# Altium footprint library DIP-Q  0607.PCBlib: 66 footprints (part 3 of 5)
Each footprint in its own frame and in the unit in brackets; x right, y up, seen from the top. Pads: shape width x height; smd on the part's side, far side on the other; paste and mask are expansions set on the pad; w line width, h text height; cw(c..) or ccw(c..) is an arc to the next point about the centre after c.
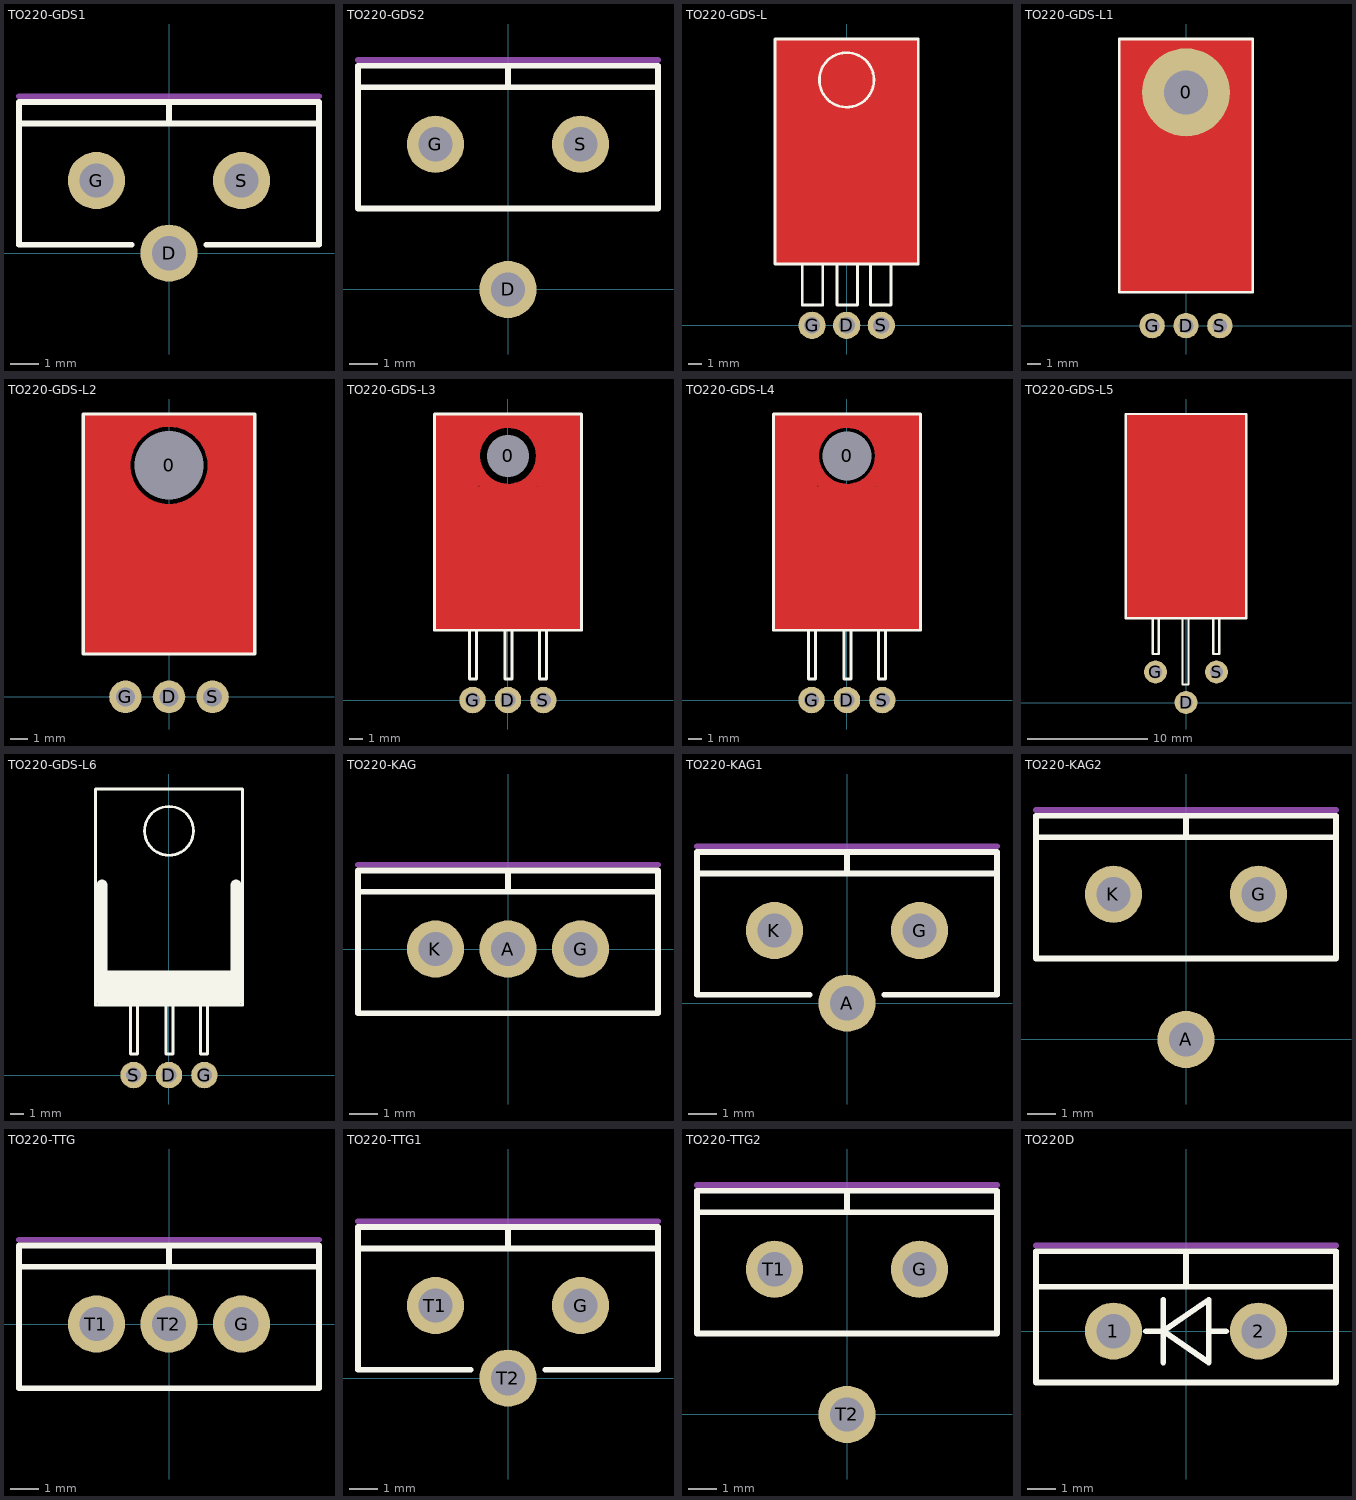
[diagram p2: the footprints below, top view; thin cyan lines are the x and y axes]

## TO220-GDS1 [mm]
height 19.7
pads (3):
  round 2 hole 1.2: D(0,0) G(-2.54,2.54) S(2.54,2.54)
Top Overlay:
  lines w0.2: -5.25,4.54 5.25,4.54 ; -1.3,0.29 -5.25,0.29 -5.25,5.29 5.25,5.29 5.25,0.29 1.3,0.29 ; 0,4.54 0,5.29
Mechanical 7:
  lines w0.2: -5.25,5.49 5.25,5.49

## TO220-GDS2 [mm]
height 19.7
pads (3):
  round 2 hole 1.2: D(0,0) G(-2.54,5.08) S(2.54,5.08)
Top Overlay:
  lines w0.2: -5.25,7.08 5.25,7.08 ; 0,7.08 0,7.83 ; -5.25,2.83 -5.25,7.83 5.25,7.83 5.25,2.83 -5.25,2.83
Mechanical 7:
  lines w0.2: -5.25,8.03 5.25,8.03

## TO220-GDS-L [mm]
height 4.6
pads (3):
  round 2 hole 1.2: D(0,0) G(-2.54,0) S(2.54,0)
Top Layer:
  rectangle: -5.2,4.5 5.3,21
Top Overlay:
  circle w0.2: c0,18 r2
  lines w0.2: -3.25,4.5 -3.25,1.5 -1.75,1.5 -1.75,4.5 ; -0.71,4.5 -0.71,1.5 0.79,1.5 0.79,4.5 ; 1.75,4.5 1.75,1.5 3.25,1.5 3.25,4.5 ; -5.25,4.5 -5.25,21 5.25,21 5.25,4.5 -5.25,4.5
Bottom Overlay:
  lines w0.3: -1.25,-1 -1.25,1 ; 1.25,-1 1.25,1

## TO220-GDS-L1 [mm]
height 4.6
pads (4):
  round 6.6 hole 3.3: 0(0,17.5)
  round 1.9 hole 1.1: D(0,0) G(-2.54,0) S(2.54,0)
Top Layer:
  rectangle: -5,2.5 5,21.5
Top Overlay:
  lines w0.2: -5,2.5 -5,21.5 5,21.5 5,2.5 -5,2.5
Bottom Overlay:
  lines w0.3: -1.27,-1 -1.27,1 ; 1.27,-1 1.27,1

## TO220-GDS-L2 [mm]
height 4.6
pads (4):
  round 2 hole 4 unplated: 0(0,13.5)
  round 1.9 hole 1.1: D(0,0) G(-2.54,0) S(2.54,0)
Top Layer:
  circle w0.5: c0,13.5 r2.5
  rectangle: 2.5,10.5 5,16.5
  region: -2.5,16.5 -5,16.5 -5,10.5 -2.5,10.5
  rectangle: -5,2.5 5,10.8
  lines w0.5: -1.75,16.25 1.55,16.25 1.8,16
  lines w1: -4.4,16 -1.4,16 ; 1.6,16 3.9,16
  lines w1.5: -1.982,15.752 ccw(c0,13.5) 2.121,15.621
Top Overlay:
  lines w0.2: -5,2.5 -5,16.5 5,16.5 5,2.5 -5,2.5
Bottom Overlay:
  lines w0.3: -1.27,-1 -1.27,1 ; 1.27,-1 1.27,1
Drill Drawing:
  circle w0.2: c0,13.5 r2
  text "NPTH" at -2,9.75 h1.2

## TO220-GDS-L3 [mm]
height 4.69
pads (4):
  round 2 hole 3 unplated: 0(0.001,17.499)
  round 1.9 hole 1.1: D(0,0) G(-2.54,0) S(2.54,0)
Top Layer:
  circle w1: c0.001,17.499 r2.5
  region: -2.099,20.499 -5.299,20.499 -5.299,15.299 -2.099,15.299
  rectangle: 2.101,15.299 5.301,20.499
  rectangle: -5.299,4.999 5.301,15.299
  lines w1: -4.499,19.899 -4.399,19.999 3.901,19.999
Top Overlay:
  lines w0.2: -2.75,4.999 -2.75,1.5 -2.25,1.5 -2.25,4.999 ; -0.21,4.999 -0.21,1.5 0.29,1.5 0.29,4.999 ; 2.25,4.999 2.25,1.5 2.75,1.5 2.75,4.999 ; 5.271,4.999 -5.269,4.999 -5.269,20.499 5.271,20.499 5.271,5
Bottom Overlay:
  lines w0.5: -1.27,-1 -1.27,1 ; 1.27,-1 1.27,1
Drill Drawing:
  circle w0.2: c0.001,17.499 r1.521
  text "NPTH" at -2.031,13.816 h1.5

## TO220-GDS-L4 [mm]
height 4.69
pads (4):
  round 2 hole 3.5 unplated: 0(0.001,17.499)
  round 1.9 hole 1.1: D(0,0) G(-2.54,0) S(2.54,0)
Top Layer:
  circle w1: c0.001,17.499 r2.5
  region: -2.099,20.499 -5.299,20.499 -5.299,15.299 -2.099,15.299
  rectangle: 2.101,15.299 5.301,20.499
  rectangle: -5.299,4.999 5.301,15.299
  lines w1: -4.399,19.999 3.901,19.999
Top Overlay:
  lines w0.2: -5.269,4.999 5.271,4.999 ; -5.269,5 -5.269,20.499 5.271,20.499 5.271,5 ; -2.75,4.999 -2.75,1.5 -2.25,1.5 -2.25,4.999 ; -0.21,4.999 -0.21,1.5 0.29,1.5 0.29,4.999 ; 2.25,4.999 2.25,1.5 2.75,1.5 2.75,4.999
Bottom Overlay:
  lines w0.4: -1.27,-1 -1.27,1 ; 1.27,-1 1.27,1
Drill Drawing:
  circle w0.2: c0.001,17.499 r1.75
  text "NPTH" at -2.031,13.816 h1.5

## TO220-GDS-L5 [mm]
height 4.5
pads (3):
  round 1.9 hole 1.1: D(0,0) G(-2.54,2.54) S(2.54,2.54)
Top Layer:
  rectangle: -5,7 5,24
Top Overlay:
  lines w0.2: -2.75,7 -2.75,4.04 -2.25,4.04 -2.25,7 ; -0.29,7 -0.29,1.5 0.21,1.5 ; -0.21,1.5 0.21,1.5 ; 0.21,7 0.21,1.5 ; 2.25,7 2.25,4.04 2.75,4.04 2.75,7 ; -5,7 -5,24 5,24 5,7 -5,7

## TO220-GDS-L6 [mm]
height 4.69
pads (3):
  round 1.9 hole 1.1: D(0,0) G(2.54,0) S(-2.54,0)
Top Overlay:
  circle w0.2: c0.001,17.499 r1.75
  lines w0.2: -5.269,4.999 5.271,4.999 ; -5.269,5 -5.269,20.499 5.271,20.499 5.271,5 ; -2.75,4.999 -2.75,1.5 -2.25,1.5 -2.25,4.999 ; -0.21,4.999 -0.21,1.5 0.29,1.5 0.29,4.999 ; 2.25,4.999 2.25,1.5 2.75,1.5 2.75,4.999
  lines w0.8: -4.8,5.3 -4.8,13.6 ; -4.8,7.1 4.8,7.1 ; 4.8,5.3 4.8,13.6
  lines w2.5: -4.1,6.2 4.1,6.2
Bottom Overlay:
  lines w0.4: -1.27,-1 -1.27,1 ; 1.27,-1 1.27,1

## TO220-KAG [mm]
height 19.7
pads (3):
  round 2 hole 1.2: A(0,0) G(2.54,0) K(-2.54,0)
Top Overlay:
  lines w0.2: -5.25,2 5.25,2 ; 0,2 0,2.75 ; -5.25,-2.25 -5.25,2.75 5.25,2.75 5.25,-2.25 -5.25,-2.25
Bottom Overlay:
  lines w0.3: -1.27,-1 -1.27,1 ; 1.27,-1 1.27,1
Mechanical 7:
  lines w0.2: -5.25,2.95 5.25,2.95

## TO220-KAG1 [mm]
height 19.7
pads (3):
  round 2 hole 1.2: A(0,0) G(2.54,2.54) K(-2.54,2.54)
Top Overlay:
  lines w0.2: -5.25,4.54 5.25,4.54 ; -1.3,0.29 -5.25,0.29 -5.25,5.29 5.25,5.29 5.25,0.29 1.3,0.29 ; 0,4.54 0,5.29
Mechanical 7:
  lines w0.2: -5.25,5.49 5.25,5.49

## TO220-KAG2 [mm]
height 19.7
pads (3):
  round 2 hole 1.2: A(0,0) G(2.54,5.08) K(-2.54,5.08)
Top Overlay:
  lines w0.2: -5.25,7.08 5.25,7.08 ; 0,7.08 0,7.83 ; -5.25,2.83 5.25,2.83 5.25,7.83 -5.25,7.83 -5.25,2.83
Mechanical 7:
  lines w0.2: -5.25,8.03 5.25,8.03

## TO220-TTG [mm]
height 19.7
pads (3):
  round 2 hole 1.2: G(2.54,0) T1(-2.54,0) T2(0,0)
Top Overlay:
  lines w0.2: -5.25,2 5.25,2 ; 0,2 0,2.75 ; -5.25,-2.25 -5.25,2.75 5.25,2.75 5.25,-2.25 -5.25,-2.25
Bottom Overlay:
  lines w0.3: -1.27,-1 -1.27,1 ; 1.27,-1 1.27,1
Mechanical 7:
  lines w0.2: -5.25,2.95 5.25,2.95

## TO220-TTG1 [mm]
height 19.7
pads (3):
  round 2 hole 1.2: G(2.54,2.54) T1(-2.54,2.54) T2(0,0)
Top Overlay:
  lines w0.2: -5.25,4.54 5.25,4.54 ; -1.3,0.29 -5.25,0.29 -5.25,5.29 5.25,5.29 5.25,0.29 1.3,0.29 ; 0,4.54 0,5.29
Mechanical 7:
  lines w0.2: -5.25,5.49 5.25,5.49

## TO220-TTG2 [mm]
height 19.7
pads (3):
  round 2 hole 1.2: G(2.54,5.08) T1(-2.54,5.08) T2(0,0)
Top Overlay:
  lines w0.2: -5.25,7.08 5.25,7.08 ; 0,7.08 0,7.83 ; -5.25,2.83 -5.25,7.83 5.25,7.83 5.25,2.83 -5.25,2.83
Mechanical 7:
  lines w0.2: -5.25,8.03 5.25,8.03

## TO220D [mm]
pads (2):
  round 2 hole 1.2: 1(-2.548,-0.001) 2(2.532,-0.001)
Top Overlay:
  lines w0.2: -5.258,1.549 5.242,1.549 ; -1.408,-0.001 -0.808,-0.001 ; -0.808,-1.101 -0.808,1.099 ; -0.008,1.549 -0.008,2.799 ; 0.792,-0.001 1.392,-0.001 ; -0.808,-0.001 0.792,1.099 0.792,-1.101 -0.808,-0.001 ; -5.258,-1.801 -5.258,2.799 5.242,2.799 5.242,-1.801 -5.258,-1.801
Mechanical 7:
  lines w0.2: -5.258,2.999 5.242,2.999